# Altium footprint library ic01_powersupply.pcblib: 1 footprints
Each footprint in its own frame and in the unit in brackets; x right, y up, seen from the top. Pads: shape width x height; smd on the part's side, far side on the other; paste and mask are expansions set on the pad; w line width, h text height; cw(c..) or ccw(c..) is an arc to the next point about the centre after c.
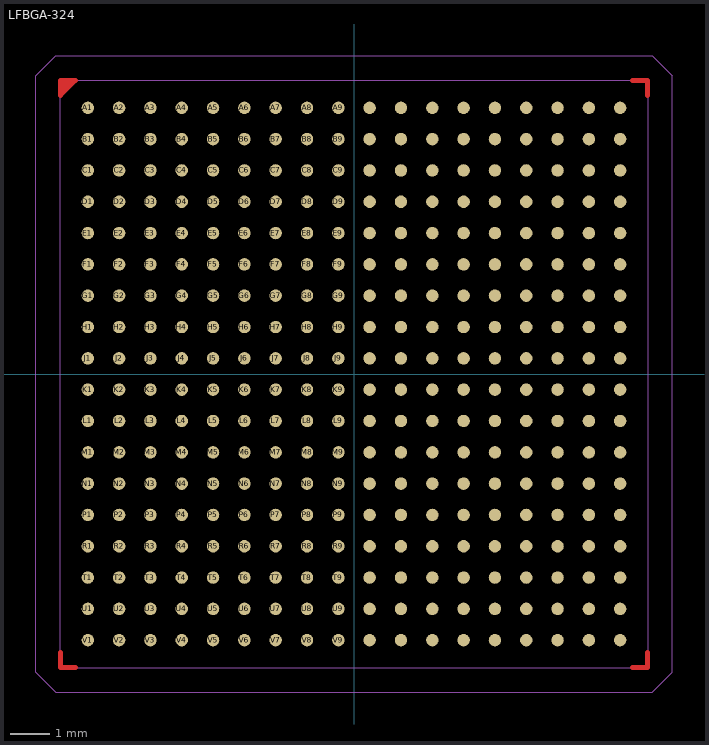
[diagram p0: the footprint, top view; thin cyan lines are the x and y axes]

## LFBGA-324 [mm] "324-ball Low Profile Fine Pitch Ball Grid Array"
height 1.397
pads (324):
  round 0.318 smd mask+0.051: A1(-6.8,6.8) A2(-6,6.8) A3(-5.2,6.8) A4(-4.4,6.8) A5(-3.6,6.8) A6(-2.8,6.8) A7(-2,6.8) A8(-1.2,6.8) A9(-0.4,6.8) A10(0.4,6.8) A11(1.2,6.8) A12(2,6.8) A13(2.8,6.8) A14(3.6,6.8) A15(4.4,6.8) A16(5.2,6.8) A17(6,6.8) A18(6.8,6.8) B1(-6.8,6) B2(-6,6) B3(-5.2,6) B4(-4.4,6) B5(-3.6,6) B6(-2.8,6) B7(-2,6) B8(-1.2,6) B9(-0.4,6) B10(0.4,6) B11(1.2,6) B12(2,6) B13(2.8,6) B14(3.6,6) B15(4.4,6) B16(5.2,6) B17(6,6) B18(6.8,6) C1(-6.8,5.2) C2(-6,5.2) C3(-5.2,5.2) C4(-4.4,5.2) C5(-3.6,5.2) C6(-2.8,5.2) C7(-2,5.2) C8(-1.2,5.2) C9(-0.4,5.2) C10(0.4,5.2) C11(1.2,5.2) C12(2,5.2) C13(2.8,5.2) C14(3.6,5.2) C15(4.4,5.2) C16(5.2,5.2) C17(6,5.2) C18(6.8,5.2) D1(-6.8,4.4) D2(-6,4.4) D3(-5.2,4.4) D4(-4.4,4.4) D5(-3.6,4.4) D6(-2.8,4.4) D7(-2,4.4) D8(-1.2,4.4) D9(-0.4,4.4) D10(0.4,4.4) D11(1.2,4.4) D12(2,4.4) D13(2.8,4.4) D14(3.6,4.4) D15(4.4,4.4) D16(5.2,4.4) D17(6,4.4) D18(6.8,4.4) E1(-6.8,3.6) E2(-6,3.6) E3(-5.2,3.6) E4(-4.4,3.6) E5(-3.6,3.6) E6(-2.8,3.6) E7(-2,3.6) E8(-1.2,3.6) E9(-0.4,3.6) E10(0.4,3.6) E11(1.2,3.6) E12(2,3.6) E13(2.8,3.6) E14(3.6,3.6) E15(4.4,3.6) E16(5.2,3.6) E17(6,3.6) E18(6.8,3.6) F1(-6.8,2.8) F2(-6,2.8) F3(-5.2,2.8) F4(-4.4,2.8) F5(-3.6,2.8) F6(-2.8,2.8) F7(-2,2.8) F8(-1.2,2.8) F9(-0.4,2.8) F10(0.4,2.8) F11(1.2,2.8) F12(2,2.8) F13(2.8,2.8) F14(3.6,2.8) F15(4.4,2.8) F16(5.2,2.8) F17(6,2.8) F18(6.8,2.8) G1(-6.8,2) G2(-6,2) G3(-5.2,2) G4(-4.4,2) G5(-3.6,2) G6(-2.8,2) G7(-2,2) G8(-1.2,2) G9(-0.4,2) G10(0.4,2) G11(1.2,2) G12(2,2) G13(2.8,2) G14(3.6,2) G15(4.4,2) G16(5.2,2) G17(6,2) G18(6.8,2) H1(-6.8,1.2) H2(-6,1.2) H3(-5.2,1.2) H4(-4.4,1.2) H5(-3.6,1.2) H6(-2.8,1.2) H7(-2,1.2) H8(-1.2,1.2) H9(-0.4,1.2) H10(0.4,1.2) H11(1.2,1.2) H12(2,1.2) H13(2.8,1.2) H14(3.6,1.2) H15(4.4,1.2) H16(5.2,1.2) H17(6,1.2) H18(6.8,1.2) J1(-6.8,0.4) J2(-6,0.4) J3(-5.2,0.4) J4(-4.4,0.4) J5(-3.6,0.4) J6(-2.8,0.4) J7(-2,0.4) J8(-1.2,0.4) J9(-0.4,0.4) J10(0.4,0.4) J11(1.2,0.4) J12(2,0.4) J13(2.8,0.4) J14(3.6,0.4) J15(4.4,0.4) J16(5.2,0.4) J17(6,0.4) J18(6.8,0.4) K1(-6.8,-0.4) K2(-6,-0.4) K3(-5.2,-0.4) K4(-4.4,-0.4) K5(-3.6,-0.4) K6(-2.8,-0.4) K7(-2,-0.4) K8(-1.2,-0.4) K9(-0.4,-0.4) K10(0.4,-0.4) K11(1.2,-0.4) K12(2,-0.4) K13(2.8,-0.4) K14(3.6,-0.4) K15(4.4,-0.4) K16(5.2,-0.4) K17(6,-0.4) K18(6.8,-0.4) L1(-6.8,-1.2) L2(-6,-1.2) L3(-5.2,-1.2) L4(-4.4,-1.2) L5(-3.6,-1.2) L6(-2.8,-1.2) L7(-2,-1.2) L8(-1.2,-1.2) L9(-0.4,-1.2) L10(0.4,-1.2) L11(1.2,-1.2) L12(2,-1.2) L13(2.8,-1.2) L14(3.6,-1.2) L15(4.4,-1.2) L16(5.2,-1.2) L17(6,-1.2) L18(6.8,-1.2) M1(-6.8,-2) M2(-6,-2) M3(-5.2,-2) M4(-4.4,-2) M5(-3.6,-2) M6(-2.8,-2) M7(-2,-2) M8(-1.2,-2) M9(-0.4,-2) M10(0.4,-2) M11(1.2,-2) M12(2,-2) M13(2.8,-2) M14(3.6,-2) M15(4.4,-2) M16(5.2,-2) M17(6,-2) M18(6.8,-2) N1(-6.8,-2.8) N2(-6,-2.8) N3(-5.2,-2.8) N4(-4.4,-2.8) N5(-3.6,-2.8) N6(-2.8,-2.8) N7(-2,-2.8) N8(-1.2,-2.8) N9(-0.4,-2.8) N10(0.4,-2.8) N11(1.2,-2.8) N12(2,-2.8) N13(2.8,-2.8) N14(3.6,-2.8) N15(4.4,-2.8) N16(5.2,-2.8) N17(6,-2.8) N18(6.8,-2.8) P1(-6.8,-3.6) P2(-6,-3.6) P3(-5.2,-3.6) P4(-4.4,-3.6) P5(-3.6,-3.6) P6(-2.8,-3.6) P7(-2,-3.6) P8(-1.2,-3.6) P9(-0.4,-3.6) P10(0.4,-3.6) P11(1.2,-3.6) P12(2,-3.6) P13(2.8,-3.6) P14(3.6,-3.6) P15(4.4,-3.6) P16(5.2,-3.6) P17(6,-3.6) P18(6.8,-3.6) R1(-6.8,-4.4) R2(-6,-4.4) R3(-5.2,-4.4) R4(-4.4,-4.4) R5(-3.6,-4.4) R6(-2.8,-4.4) R7(-2,-4.4) R8(-1.2,-4.4) R9(-0.4,-4.4) R10(0.4,-4.4) R11(1.2,-4.4) R12(2,-4.4) R13(2.8,-4.4) R14(3.6,-4.4) R15(4.4,-4.4) R16(5.2,-4.4) R17(6,-4.4) R18(6.8,-4.4) T1(-6.8,-5.2) T2(-6,-5.2) T3(-5.2,-5.2) T4(-4.4,-5.2) T5(-3.6,-5.2) T6(-2.8,-5.2) T7(-2,-5.2) T8(-1.2,-5.2) T9(-0.4,-5.2) T10(0.4,-5.2) T11(1.2,-5.2) T12(2,-5.2) T13(2.8,-5.2) T14(3.6,-5.2) T15(4.4,-5.2) T16(5.2,-5.2) T17(6,-5.2) T18(6.8,-5.2) U1(-6.8,-6) U2(-6,-6) U3(-5.2,-6) U4(-4.4,-6) U5(-3.6,-6) U6(-2.8,-6) U7(-2,-6) U8(-1.2,-6) U9(-0.4,-6) U10(0.4,-6) U11(1.2,-6) U12(2,-6) U13(2.8,-6) U14(3.6,-6) U15(4.4,-6) U16(5.2,-6) U17(6,-6) U18(6.8,-6) V1(-6.8,-6.8) V2(-6,-6.8) V3(-5.2,-6.8) V4(-4.4,-6.8) V5(-3.6,-6.8) V6(-2.8,-6.8) V7(-2,-6.8) V8(-1.2,-6.8) V9(-0.4,-6.8) V10(0.4,-6.8) V11(1.2,-6.8) V12(2,-6.8) V13(2.8,-6.8) V14(3.6,-6.8) V15(4.4,-6.8) V16(5.2,-6.8) V17(6,-6.8) V18(6.8,-6.8)
Top Layer:
  region: -7.5,7.5 -7.119,7.5 -7.5,7.119
  lines w0.127: -7.5,-7.119 -7.5,-7.5 -7.119,-7.5 ; 7.119,-7.5 7.5,-7.5 7.5,-7.119 ; 7.119,7.5 7.5,7.5 7.5,7.119 ; -7.5,7.119 -7.119,7.5 -7.5,7.5 -7.5,7.119
Top Solder:
  lines w0.229: -7.5,-7.119 -7.5,-7.5 -7.119,-7.5 ; 7.119,-7.5 7.5,-7.5 7.5,-7.119 ; 7.119,7.5 7.5,7.5 7.5,7.119 ; -7.5,7.119 -7.119,7.5 -7.5,7.5 -7.5,7.119
Mechanical 15:
  lines w0.025: -8.128,-7.62 -8.128,7.62 -7.62,8.128 7.62,8.128 8.128,7.62 8.128,-7.62 7.62,-8.128 -7.62,-8.128 -8.128,-7.62
Mechanical 16:
  lines w0.025: -7.5,-7.5 -7.5,7.5 7.5,7.5 7.5,-7.5 -7.5,-7.5
3D body: height 1.4, standoff 1.39, extent -5.965,4.954 -4.953,5.968
3D body: height 1.4, standoff 0.51, extent -7.5,-7.5 7.5,7.5
3D body: height 0.27, standoff -0.04, extent -6.951,-6.952 -6.647,-6.648
3D body: height 0.27, standoff -0.04, extent -6.151,-6.952 -5.847,-6.648
3D body: height 0.27, standoff -0.04, extent -5.351,-6.952 -5.047,-6.648
3D body: height 0.27, standoff -0.04, extent -4.551,-6.952 -4.247,-6.648
3D body: height 0.27, standoff -0.04, extent -3.751,-6.952 -3.447,-6.648
3D body: height 0.27, standoff -0.04, extent 0.249,-6.952 0.553,-6.648
3D body: height 0.27, standoff -0.04, extent -0.551,-6.952 -0.247,-6.648
3D body: height 0.27, standoff -0.04, extent -1.351,-6.952 -1.047,-6.648
3D body: height 0.27, standoff -0.04, extent -2.151,-6.952 -1.847,-6.648
3D body: height 0.27, standoff -0.04, extent -2.951,-6.952 -2.647,-6.648
3D body: height 0.27, standoff -0.04, extent 4.249,-6.952 4.553,-6.648
3D body: height 0.27, standoff -0.04, extent 3.449,-6.952 3.753,-6.648
3D body: height 0.27, standoff -0.04, extent 2.649,-6.952 2.953,-6.648
3D body: height 0.27, standoff -0.04, extent 1.849,-6.952 2.153,-6.648
3D body: height 0.27, standoff -0.04, extent 1.049,-6.952 1.353,-6.648
3D body: height 0.27, standoff -0.04, extent 6.649,-6.952 6.953,-6.648
3D body: height 0.27, standoff -0.04, extent 5.849,-6.952 6.153,-6.648
3D body: height 0.27, standoff -0.04, extent 5.049,-6.952 5.353,-6.648
3D body: height 0.27, standoff -0.04, extent -6.951,-6.152 -6.647,-5.848
3D body: height 0.27, standoff -0.04, extent -6.151,-6.152 -5.847,-5.848
3D body: height 0.27, standoff -0.04, extent -5.351,-6.152 -5.047,-5.848
3D body: height 0.27, standoff -0.04, extent -4.551,-6.152 -4.247,-5.848
3D body: height 0.27, standoff -0.04, extent -3.751,-6.152 -3.447,-5.848
3D body: height 0.27, standoff -0.04, extent 0.249,-6.152 0.553,-5.848
3D body: height 0.27, standoff -0.04, extent -0.551,-6.152 -0.247,-5.848
3D body: height 0.27, standoff -0.04, extent -1.351,-6.152 -1.047,-5.848
3D body: height 0.27, standoff -0.04, extent -2.151,-6.152 -1.847,-5.848
3D body: height 0.27, standoff -0.04, extent -2.951,-6.152 -2.647,-5.848
3D body: height 0.27, standoff -0.04, extent 4.249,-6.152 4.553,-5.848
3D body: height 0.27, standoff -0.04, extent 3.449,-6.152 3.753,-5.848
3D body: height 0.27, standoff -0.04, extent 2.649,-6.152 2.953,-5.848
3D body: height 0.27, standoff -0.04, extent 1.849,-6.152 2.153,-5.848
3D body: height 0.27, standoff -0.04, extent 1.049,-6.152 1.353,-5.848
3D body: height 0.27, standoff -0.04, extent 6.649,-6.152 6.953,-5.848
3D body: height 0.27, standoff -0.04, extent 5.849,-6.152 6.153,-5.848
3D body: height 0.27, standoff -0.04, extent 5.049,-6.152 5.353,-5.848
3D body: height 0.27, standoff -0.04, extent -6.951,-5.352 -6.647,-5.048
3D body: height 0.27, standoff -0.04, extent -6.151,-5.352 -5.847,-5.048
3D body: height 0.27, standoff -0.04, extent -5.351,-5.352 -5.047,-5.048
3D body: height 0.27, standoff -0.04, extent -4.551,-5.352 -4.247,-5.048
3D body: height 0.27, standoff -0.04, extent -3.751,-5.352 -3.447,-5.048
3D body: height 0.27, standoff -0.04, extent 0.249,-5.352 0.553,-5.048
3D body: height 0.27, standoff -0.04, extent -0.551,-5.352 -0.247,-5.048
3D body: height 0.27, standoff -0.04, extent -1.351,-5.352 -1.047,-5.048
3D body: height 0.27, standoff -0.04, extent -2.151,-5.352 -1.847,-5.048
3D body: height 0.27, standoff -0.04, extent -2.951,-5.352 -2.647,-5.048
3D body: height 0.27, standoff -0.04, extent 4.249,-5.352 4.553,-5.048
3D body: height 0.27, standoff -0.04, extent 3.449,-5.352 3.753,-5.048
3D body: height 0.27, standoff -0.04, extent 2.649,-5.352 2.953,-5.048
3D body: height 0.27, standoff -0.04, extent 1.849,-5.352 2.153,-5.048
3D body: height 0.27, standoff -0.04, extent 1.049,-5.352 1.353,-5.048
3D body: height 0.27, standoff -0.04, extent 6.649,-5.352 6.953,-5.048
3D body: height 0.27, standoff -0.04, extent 5.849,-5.352 6.153,-5.048
3D body: height 0.27, standoff -0.04, extent 5.049,-5.352 5.353,-5.048
3D body: height 0.27, standoff -0.04, extent -6.951,-4.552 -6.647,-4.248
3D body: height 0.27, standoff -0.04, extent -6.151,-4.552 -5.847,-4.248
3D body: height 0.27, standoff -0.04, extent -5.351,-4.552 -5.047,-4.248
3D body: height 0.27, standoff -0.04, extent -4.551,-4.552 -4.247,-4.248
3D body: height 0.27, standoff -0.04, extent -3.751,-4.552 -3.447,-4.248
3D body: height 0.27, standoff -0.04, extent 0.249,-4.552 0.553,-4.248
3D body: height 0.27, standoff -0.04, extent -0.551,-4.552 -0.247,-4.248
3D body: height 0.27, standoff -0.04, extent -1.351,-4.552 -1.047,-4.248
3D body: height 0.27, standoff -0.04, extent -2.151,-4.552 -1.847,-4.248
3D body: height 0.27, standoff -0.04, extent -2.951,-4.552 -2.647,-4.248
3D body: height 0.27, standoff -0.04, extent 4.249,-4.552 4.553,-4.248
3D body: height 0.27, standoff -0.04, extent 3.449,-4.552 3.753,-4.248
3D body: height 0.27, standoff -0.04, extent 2.649,-4.552 2.953,-4.248
3D body: height 0.27, standoff -0.04, extent 1.849,-4.552 2.153,-4.248
3D body: height 0.27, standoff -0.04, extent 1.049,-4.552 1.353,-4.248
3D body: height 0.27, standoff -0.04, extent 6.649,-4.552 6.953,-4.248
3D body: height 0.27, standoff -0.04, extent 5.849,-4.552 6.153,-4.248
3D body: height 0.27, standoff -0.04, extent 5.049,-4.552 5.353,-4.248
3D body: height 0.27, standoff -0.04, extent -6.951,-3.752 -6.647,-3.448
3D body: height 0.27, standoff -0.04, extent -6.151,-3.752 -5.847,-3.448
3D body: height 0.27, standoff -0.04, extent -5.351,-3.752 -5.047,-3.448
3D body: height 0.27, standoff -0.04, extent -4.551,-3.752 -4.247,-3.448
3D body: height 0.27, standoff -0.04, extent -3.751,-3.752 -3.447,-3.448
3D body: height 0.27, standoff -0.04, extent 0.249,-3.752 0.553,-3.448
3D body: height 0.27, standoff -0.04, extent -0.551,-3.752 -0.247,-3.448
3D body: height 0.27, standoff -0.04, extent -1.351,-3.752 -1.047,-3.448
3D body: height 0.27, standoff -0.04, extent -2.151,-3.752 -1.847,-3.448
3D body: height 0.27, standoff -0.04, extent -2.951,-3.752 -2.647,-3.448
3D body: height 0.27, standoff -0.04, extent 4.249,-3.752 4.553,-3.448
3D body: height 0.27, standoff -0.04, extent 3.449,-3.752 3.753,-3.448
3D body: height 0.27, standoff -0.04, extent 2.649,-3.752 2.953,-3.448
3D body: height 0.27, standoff -0.04, extent 1.849,-3.752 2.153,-3.448
3D body: height 0.27, standoff -0.04, extent 1.049,-3.752 1.353,-3.448
3D body: height 0.27, standoff -0.04, extent 6.649,-3.752 6.953,-3.448
3D body: height 0.27, standoff -0.04, extent 5.849,-3.752 6.153,-3.448
3D body: height 0.27, standoff -0.04, extent 5.049,-3.752 5.353,-3.448
3D body: height 0.27, standoff -0.04, extent -6.951,-2.952 -6.647,-2.648
3D body: height 0.27, standoff -0.04, extent -6.151,-2.952 -5.847,-2.648
3D body: height 0.27, standoff -0.04, extent -5.351,-2.952 -5.047,-2.648
3D body: height 0.27, standoff -0.04, extent -4.551,-2.952 -4.247,-2.648
3D body: height 0.27, standoff -0.04, extent -3.751,-2.952 -3.447,-2.648
3D body: height 0.27, standoff -0.04, extent 0.249,-2.952 0.553,-2.648
3D body: height 0.27, standoff -0.04, extent -0.551,-2.952 -0.247,-2.648
3D body: height 0.27, standoff -0.04, extent -1.351,-2.952 -1.047,-2.648
3D body: height 0.27, standoff -0.04, extent -2.151,-2.952 -1.847,-2.648
3D body: height 0.27, standoff -0.04, extent -2.951,-2.952 -2.647,-2.648
3D body: height 0.27, standoff -0.04, extent 4.249,-2.952 4.553,-2.648
3D body: height 0.27, standoff -0.04, extent 3.449,-2.952 3.753,-2.648
3D body: height 0.27, standoff -0.04, extent 2.649,-2.952 2.953,-2.648
3D body: height 0.27, standoff -0.04, extent 1.849,-2.952 2.153,-2.648
3D body: height 0.27, standoff -0.04, extent 1.049,-2.952 1.353,-2.648
3D body: height 0.27, standoff -0.04, extent 6.649,-2.952 6.953,-2.648
3D body: height 0.27, standoff -0.04, extent 5.849,-2.952 6.153,-2.648
3D body: height 0.27, standoff -0.04, extent 5.049,-2.952 5.353,-2.648
3D body: height 0.27, standoff -0.04, extent -6.951,-2.152 -6.647,-1.848
3D body: height 0.27, standoff -0.04, extent -6.151,-2.152 -5.847,-1.848
3D body: height 0.27, standoff -0.04, extent -5.351,-2.152 -5.047,-1.848
3D body: height 0.27, standoff -0.04, extent -4.551,-2.152 -4.247,-1.848
3D body: height 0.27, standoff -0.04, extent -3.751,-2.152 -3.447,-1.848
3D body: height 0.27, standoff -0.04, extent 0.249,-2.152 0.553,-1.848
3D body: height 0.27, standoff -0.04, extent -0.551,-2.152 -0.247,-1.848
3D body: height 0.27, standoff -0.04, extent -1.351,-2.152 -1.047,-1.848
3D body: height 0.27, standoff -0.04, extent -2.151,-2.152 -1.847,-1.848
3D body: height 0.27, standoff -0.04, extent -2.951,-2.152 -2.647,-1.848
3D body: height 0.27, standoff -0.04, extent 4.249,-2.152 4.553,-1.848
3D body: height 0.27, standoff -0.04, extent 3.449,-2.152 3.753,-1.848
3D body: height 0.27, standoff -0.04, extent 2.649,-2.152 2.953,-1.848
3D body: height 0.27, standoff -0.04, extent 1.849,-2.152 2.153,-1.848
3D body: height 0.27, standoff -0.04, extent 1.049,-2.152 1.353,-1.848
3D body: height 0.27, standoff -0.04, extent 6.649,-2.152 6.953,-1.848
3D body: height 0.27, standoff -0.04, extent 5.849,-2.152 6.153,-1.848
3D body: height 0.27, standoff -0.04, extent 5.049,-2.152 5.353,-1.848
3D body: height 0.27, standoff -0.04, extent -6.951,-1.352 -6.647,-1.048
3D body: height 0.27, standoff -0.04, extent -6.151,-1.352 -5.847,-1.048
3D body: height 0.27, standoff -0.04, extent -5.351,-1.352 -5.047,-1.048
3D body: height 0.27, standoff -0.04, extent -4.551,-1.352 -4.247,-1.048
3D body: height 0.27, standoff -0.04, extent -3.751,-1.352 -3.447,-1.048
3D body: height 0.27, standoff -0.04, extent 0.249,-1.352 0.553,-1.048
3D body: height 0.27, standoff -0.04, extent -0.551,-1.352 -0.247,-1.048
3D body: height 0.27, standoff -0.04, extent -1.351,-1.352 -1.047,-1.048
3D body: height 0.27, standoff -0.04, extent -2.151,-1.352 -1.847,-1.048
3D body: height 0.27, standoff -0.04, extent -2.951,-1.352 -2.647,-1.048
3D body: height 0.27, standoff -0.04, extent 4.249,-1.352 4.553,-1.048
3D body: height 0.27, standoff -0.04, extent 3.449,-1.352 3.753,-1.048
3D body: height 0.27, standoff -0.04, extent 2.649,-1.352 2.953,-1.048
3D body: height 0.27, standoff -0.04, extent 1.849,-1.352 2.153,-1.048
3D body: height 0.27, standoff -0.04, extent 1.049,-1.352 1.353,-1.048
3D body: height 0.27, standoff -0.04, extent 6.649,-1.352 6.953,-1.048
3D body: height 0.27, standoff -0.04, extent 5.849,-1.352 6.153,-1.048
3D body: height 0.27, standoff -0.04, extent 5.049,-1.352 5.353,-1.048
3D body: height 0.27, standoff -0.04, extent -6.951,-0.552 -6.647,-0.248
3D body: height 0.27, standoff -0.04, extent -6.151,-0.552 -5.847,-0.248
3D body: height 0.27, standoff -0.04, extent -5.351,-0.552 -5.047,-0.248
3D body: height 0.27, standoff -0.04, extent -4.551,-0.552 -4.247,-0.248
3D body: height 0.27, standoff -0.04, extent -3.751,-0.552 -3.447,-0.248
3D body: height 0.27, standoff -0.04, extent 0.249,-0.552 0.553,-0.248
3D body: height 0.27, standoff -0.04, extent -0.551,-0.552 -0.247,-0.248
3D body: height 0.27, standoff -0.04, extent -1.351,-0.552 -1.047,-0.248
3D body: height 0.27, standoff -0.04, extent -2.151,-0.552 -1.847,-0.248
3D body: height 0.27, standoff -0.04, extent -2.951,-0.552 -2.647,-0.248
3D body: height 0.27, standoff -0.04, extent 4.249,-0.552 4.553,-0.248
3D body: height 0.27, standoff -0.04, extent 3.449,-0.552 3.753,-0.248
3D body: height 0.27, standoff -0.04, extent 2.649,-0.552 2.953,-0.248
3D body: height 0.27, standoff -0.04, extent 1.849,-0.552 2.153,-0.248
3D body: height 0.27, standoff -0.04, extent 1.049,-0.552 1.353,-0.248
3D body: height 0.27, standoff -0.04, extent 6.649,-0.552 6.953,-0.248
3D body: height 0.27, standoff -0.04, extent 5.849,-0.552 6.153,-0.248
3D body: height 0.27, standoff -0.04, extent 5.049,-0.552 5.353,-0.248
3D body: height 0.27, standoff -0.04, extent -6.951,0.248 -6.647,0.552
3D body: height 0.27, standoff -0.04, extent -6.151,0.248 -5.847,0.552
3D body: height 0.27, standoff -0.04, extent -5.351,0.248 -5.047,0.552
3D body: height 0.27, standoff -0.04, extent -4.551,0.248 -4.247,0.552
3D body: height 0.27, standoff -0.04, extent -3.751,0.248 -3.447,0.552
3D body: height 0.27, standoff -0.04, extent 0.249,0.248 0.553,0.552
3D body: height 0.27, standoff -0.04, extent -0.551,0.248 -0.247,0.552
3D body: height 0.27, standoff -0.04, extent -1.351,0.248 -1.047,0.552
3D body: height 0.27, standoff -0.04, extent -2.151,0.248 -1.847,0.552
3D body: height 0.27, standoff -0.04, extent -2.951,0.248 -2.647,0.552
3D body: height 0.27, standoff -0.04, extent 4.249,0.248 4.553,0.552
3D body: height 0.27, standoff -0.04, extent 3.449,0.248 3.753,0.552
3D body: height 0.27, standoff -0.04, extent 2.649,0.248 2.953,0.552
3D body: height 0.27, standoff -0.04, extent 1.849,0.248 2.153,0.552
3D body: height 0.27, standoff -0.04, extent 1.049,0.248 1.353,0.552
3D body: height 0.27, standoff -0.04, extent 6.649,0.248 6.953,0.552
3D body: height 0.27, standoff -0.04, extent 5.849,0.248 6.153,0.552
3D body: height 0.27, standoff -0.04, extent 5.049,0.248 5.353,0.552
3D body: height 0.27, standoff -0.04, extent -6.951,1.048 -6.647,1.352
3D body: height 0.27, standoff -0.04, extent -6.151,1.048 -5.847,1.352
3D body: height 0.27, standoff -0.04, extent -5.351,1.048 -5.047,1.352
3D body: height 0.27, standoff -0.04, extent -4.551,1.048 -4.247,1.352
3D body: height 0.27, standoff -0.04, extent -3.751,1.048 -3.447,1.352
3D body: height 0.27, standoff -0.04, extent 0.249,1.048 0.553,1.352
3D body: height 0.27, standoff -0.04, extent -0.551,1.048 -0.247,1.352
3D body: height 0.27, standoff -0.04, extent -1.351,1.048 -1.047,1.352
3D body: height 0.27, standoff -0.04, extent -2.151,1.048 -1.847,1.352
3D body: height 0.27, standoff -0.04, extent -2.951,1.048 -2.647,1.352
3D body: height 0.27, standoff -0.04, extent 4.249,1.048 4.553,1.352
3D body: height 0.27, standoff -0.04, extent 3.449,1.048 3.753,1.352
3D body: height 0.27, standoff -0.04, extent 2.649,1.048 2.953,1.352
3D body: height 0.27, standoff -0.04, extent 1.849,1.048 2.153,1.352
3D body: height 0.27, standoff -0.04, extent 1.049,1.048 1.353,1.352
3D body: height 0.27, standoff -0.04, extent 6.649,1.048 6.953,1.352
3D body: height 0.27, standoff -0.04, extent 5.849,1.048 6.153,1.352
3D body: height 0.27, standoff -0.04, extent 5.049,1.048 5.353,1.352
3D body: height 0.27, standoff -0.04, extent -6.951,1.848 -6.647,2.152
3D body: height 0.27, standoff -0.04, extent -6.151,1.848 -5.847,2.152
3D body: height 0.27, standoff -0.04, extent -5.351,1.848 -5.047,2.152
3D body: height 0.27, standoff -0.04, extent -4.551,1.848 -4.247,2.152
3D body: height 0.27, standoff -0.04, extent -3.751,1.848 -3.447,2.152
3D body: height 0.27, standoff -0.04, extent 0.249,1.848 0.553,2.152
3D body: height 0.27, standoff -0.04, extent -0.551,1.848 -0.247,2.152
3D body: height 0.27, standoff -0.04, extent -1.351,1.848 -1.047,2.152
3D body: height 0.27, standoff -0.04, extent -2.151,1.848 -1.847,2.152
3D body: height 0.27, standoff -0.04, extent -2.951,1.848 -2.647,2.152
3D body: height 0.27, standoff -0.04, extent 4.249,1.848 4.553,2.152
3D body: height 0.27, standoff -0.04, extent 3.449,1.848 3.753,2.152
3D body: height 0.27, standoff -0.04, extent 2.649,1.848 2.953,2.152
3D body: height 0.27, standoff -0.04, extent 1.849,1.848 2.153,2.152
3D body: height 0.27, standoff -0.04, extent 1.049,1.848 1.353,2.152
3D body: height 0.27, standoff -0.04, extent 6.649,1.848 6.953,2.152
3D body: height 0.27, standoff -0.04, extent 5.849,1.848 6.153,2.152
3D body: height 0.27, standoff -0.04, extent 5.049,1.848 5.353,2.152
3D body: height 0.27, standoff -0.04, extent -6.951,2.648 -6.647,2.952
3D body: height 0.27, standoff -0.04, extent -6.151,2.648 -5.847,2.952
3D body: height 0.27, standoff -0.04, extent -5.351,2.648 -5.047,2.952
3D body: height 0.27, standoff -0.04, extent -4.551,2.648 -4.247,2.952
3D body: height 0.27, standoff -0.04, extent -3.751,2.648 -3.447,2.952
3D body: height 0.27, standoff -0.04, extent 0.249,2.648 0.553,2.952
3D body: height 0.27, standoff -0.04, extent -0.551,2.648 -0.247,2.952
3D body: height 0.27, standoff -0.04, extent -1.351,2.648 -1.047,2.952
3D body: height 0.27, standoff -0.04, extent -2.151,2.648 -1.847,2.952
3D body: height 0.27, standoff -0.04, extent -2.951,2.648 -2.647,2.952
3D body: height 0.27, standoff -0.04, extent 4.249,2.648 4.553,2.952
3D body: height 0.27, standoff -0.04, extent 3.449,2.648 3.753,2.952
3D body: height 0.27, standoff -0.04, extent 2.649,2.648 2.953,2.952
3D body: height 0.27, standoff -0.04, extent 1.849,2.648 2.153,2.952
3D body: height 0.27, standoff -0.04, extent 1.049,2.648 1.353,2.952
3D body: height 0.27, standoff -0.04, extent 6.649,2.648 6.953,2.952
3D body: height 0.27, standoff -0.04, extent 5.849,2.648 6.153,2.952
3D body: height 0.27, standoff -0.04, extent 5.049,2.648 5.353,2.952
3D body: height 0.27, standoff -0.04, extent -6.951,3.448 -6.647,3.752
3D body: height 0.27, standoff -0.04, extent -6.151,3.448 -5.847,3.752
3D body: height 0.27, standoff -0.04, extent -5.351,3.448 -5.047,3.752
3D body: height 0.27, standoff -0.04, extent -4.551,3.448 -4.247,3.752
3D body: height 0.27, standoff -0.04, extent -3.751,3.448 -3.447,3.752
3D body: height 0.27, standoff -0.04, extent 0.249,3.448 0.553,3.752
3D body: height 0.27, standoff -0.04, extent -0.551,3.448 -0.247,3.752
3D body: height 0.27, standoff -0.04, extent -1.351,3.448 -1.047,3.752
3D body: height 0.27, standoff -0.04, extent -2.151,3.448 -1.847,3.752
3D body: height 0.27, standoff -0.04, extent -2.951,3.448 -2.647,3.752
3D body: height 0.27, standoff -0.04, extent 4.249,3.448 4.553,3.752
3D body: height 0.27, standoff -0.04, extent 3.449,3.448 3.753,3.752
3D body: height 0.27, standoff -0.04, extent 2.649,3.448 2.953,3.752
3D body: height 0.27, standoff -0.04, extent 1.849,3.448 2.153,3.752
3D body: height 0.27, standoff -0.04, extent 1.049,3.448 1.353,3.752
3D body: height 0.27, standoff -0.04, extent 6.649,3.448 6.953,3.752
3D body: height 0.27, standoff -0.04, extent 5.849,3.448 6.153,3.752
3D body: height 0.27, standoff -0.04, extent 5.049,3.448 5.353,3.752
3D body: height 0.27, standoff -0.04, extent -6.951,4.248 -6.647,4.552
3D body: height 0.27, standoff -0.04, extent -6.151,4.248 -5.847,4.552
3D body: height 0.27, standoff -0.04, extent -5.351,4.248 -5.047,4.552
3D body: height 0.27, standoff -0.04, extent -4.551,4.248 -4.247,4.552
3D body: height 0.27, standoff -0.04, extent -3.751,4.248 -3.447,4.552
3D body: height 0.27, standoff -0.04, extent 0.249,4.248 0.553,4.552
3D body: height 0.27, standoff -0.04, extent -0.551,4.248 -0.247,4.552
3D body: height 0.27, standoff -0.04, extent -1.351,4.248 -1.047,4.552
3D body: height 0.27, standoff -0.04, extent -2.151,4.248 -1.847,4.552
3D body: height 0.27, standoff -0.04, extent -2.951,4.248 -2.647,4.552
3D body: height 0.27, standoff -0.04, extent 4.249,4.248 4.553,4.552
3D body: height 0.27, standoff -0.04, extent 3.449,4.248 3.753,4.552
3D body: height 0.27, standoff -0.04, extent 2.649,4.248 2.953,4.552
3D body: height 0.27, standoff -0.04, extent 1.849,4.248 2.153,4.552
3D body: height 0.27, standoff -0.04, extent 1.049,4.248 1.353,4.552
3D body: height 0.27, standoff -0.04, extent 6.649,4.248 6.953,4.552
3D body: height 0.27, standoff -0.04, extent 5.849,4.248 6.153,4.552
3D body: height 0.27, standoff -0.04, extent 5.049,4.248 5.353,4.552
3D body: height 0.27, standoff -0.04, extent -6.951,5.048 -6.647,5.352
3D body: height 0.27, standoff -0.04, extent -6.151,5.048 -5.847,5.352
3D body: height 0.27, standoff -0.04, extent -5.351,5.048 -5.047,5.352
3D body: height 0.27, standoff -0.04, extent -4.551,5.048 -4.247,5.352
3D body: height 0.27, standoff -0.04, extent -3.751,5.048 -3.447,5.352
3D body: height 0.27, standoff -0.04, extent 0.249,5.048 0.553,5.352
3D body: height 0.27, standoff -0.04, extent -0.551,5.048 -0.247,5.352
3D body: height 0.27, standoff -0.04, extent -1.351,5.048 -1.047,5.352
3D body: height 0.27, standoff -0.04, extent -2.151,5.048 -1.847,5.352
3D body: height 0.27, standoff -0.04, extent -2.951,5.048 -2.647,5.352
3D body: height 0.27, standoff -0.04, extent 4.249,5.048 4.553,5.352
3D body: height 0.27, standoff -0.04, extent 3.449,5.048 3.753,5.352
3D body: height 0.27, standoff -0.04, extent 2.649,5.048 2.953,5.352
3D body: height 0.27, standoff -0.04, extent 1.849,5.048 2.153,5.352
3D body: height 0.27, standoff -0.04, extent 1.049,5.048 1.353,5.352
3D body: height 0.27, standoff -0.04, extent 6.649,5.048 6.953,5.352
3D body: height 0.27, standoff -0.04, extent 5.849,5.048 6.153,5.352
3D body: height 0.27, standoff -0.04, extent 5.049,5.048 5.353,5.352
3D body: height 0.27, standoff -0.04, extent -6.951,5.848 -6.647,6.152
3D body: height 0.27, standoff -0.04, extent -6.151,5.848 -5.847,6.152
3D body: height 0.27, standoff -0.04, extent -5.351,5.848 -5.047,6.152
3D body: height 0.27, standoff -0.04, extent -4.551,5.848 -4.247,6.152
3D body: height 0.27, standoff -0.04, extent -3.751,5.848 -3.447,6.152
3D body: height 0.27, standoff -0.04, extent 0.249,5.848 0.553,6.152
3D body: height 0.27, standoff -0.04, extent -0.551,5.848 -0.247,6.152
3D body: height 0.27, standoff -0.04, extent -1.351,5.848 -1.047,6.152
3D body: height 0.27, standoff -0.04, extent -2.151,5.848 -1.847,6.152
3D body: height 0.27, standoff -0.04, extent -2.951,5.848 -2.647,6.152
3D body: height 0.27, standoff -0.04, extent 4.249,5.848 4.553,6.152
3D body: height 0.27, standoff -0.04, extent 3.449,5.848 3.753,6.152
3D body: height 0.27, standoff -0.04, extent 2.649,5.848 2.953,6.152
3D body: height 0.27, standoff -0.04, extent 1.849,5.848 2.153,6.152
3D body: height 0.27, standoff -0.04, extent 1.049,5.848 1.353,6.152
3D body: height 0.27, standoff -0.04, extent 6.649,5.848 6.953,6.152
3D body: height 0.27, standoff -0.04, extent 5.849,5.848 6.153,6.152
3D body: height 0.27, standoff -0.04, extent 5.049,5.848 5.353,6.152
3D body: height 0.27, standoff -0.04, extent 5.049,6.648 5.353,6.952
3D body: height 0.27, standoff -0.04, extent 5.849,6.648 6.153,6.952
3D body: height 0.27, standoff -0.04, extent 6.649,6.648 6.953,6.952
3D body: height 0.27, standoff -0.04, extent 1.049,6.648 1.353,6.952
3D body: height 0.27, standoff -0.04, extent 1.849,6.648 2.153,6.952
3D body: height 0.27, standoff -0.04, extent 2.649,6.648 2.953,6.952
3D body: height 0.27, standoff -0.04, extent 3.449,6.648 3.753,6.952
3D body: height 0.27, standoff -0.04, extent 4.249,6.648 4.553,6.952
3D body: height 0.27, standoff -0.04, extent -2.951,6.648 -2.647,6.952
3D body: height 0.27, standoff -0.04, extent -2.151,6.648 -1.847,6.952
3D body: height 0.27, standoff -0.04, extent -1.351,6.648 -1.047,6.952
3D body: height 0.27, standoff -0.04, extent -0.551,6.648 -0.247,6.952
3D body: height 0.27, standoff -0.04, extent 0.249,6.648 0.553,6.952
3D body: height 0.27, standoff -0.04, extent -3.751,6.648 -3.447,6.952
3D body: height 0.27, standoff -0.04, extent -4.551,6.648 -4.247,6.952
3D body: height 0.27, standoff -0.04, extent -5.351,6.648 -5.047,6.952
3D body: height 0.27, standoff -0.04, extent -6.151,6.648 -5.847,6.952
3D body: height 0.27, standoff -0.04, extent -6.951,6.648 -6.647,6.952
3D body: height 0.51, standoff 0.2, extent -7.5,-7.5 7.5,7.5